# Altium schematic symbol library PBL - Connectors.SCHLIB: 91 symbols (part 2 of 2)
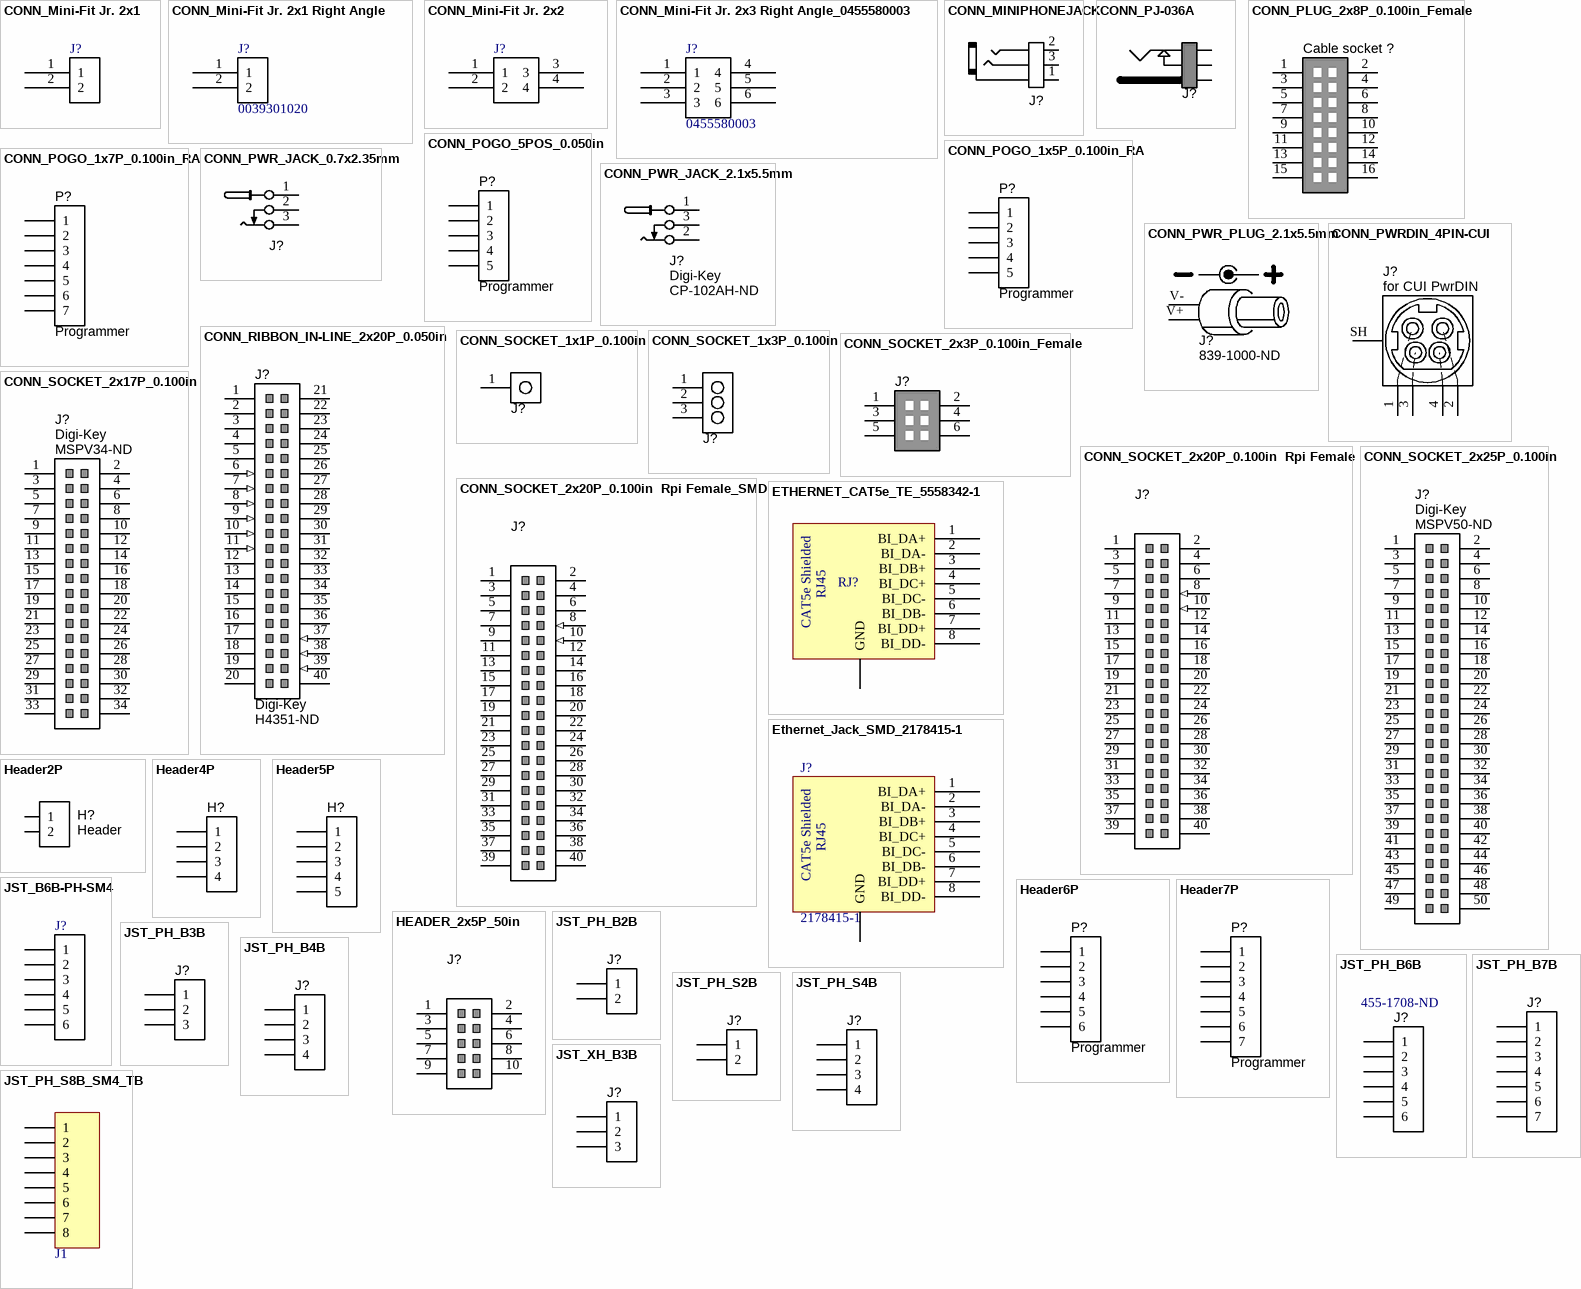
[diagram p3: symbols CONN_Mini-Fit Jr. 2x1 to JST_XH_B3B]

## JST_PH_S4B
designator J?  (value not drawn)
4 Positions Header, Shrouded Connector 0.079" (2.00mm) Surface Mount, Right Angle Tin; Manufacturer Part Number: S4B-PH-SM4-TB(LF)(SN); Manufacturer: JST Sales America Inc.; Number of Positions: 4; Number of Positions Loaded: All; Supplier 1: Digi-Key; Supplier Part Number 1: 455-1751-1-ND; Packaging: Cut Tape (CT); Part Status: Active; Connector Type: Header, Shrouded; Contact Type: Male Pin; Pitch: 0.079" (2.00mm); Number of Rows: 1; Row Spacing: -; Mounting Type: Surface Mount, Right Angle; Termination: Solder; Fastening Type: Detent Lock; Contact Mating Length: 0.130" (3.30mm); Features: Solder Retention; Contact Finish: Tin; Contact Finish Thickness: -; Color: Natural; ComponentLink1URL: http://www.jst-mfg.com/product/pdf/eng/ePH.pdf; ComponentLink1Description: http://www.jst-mfg.com/product/pdf/eng/ePH.pdf; RoHS: RoHS Compliant; Category: Connectors, Interconnects; Stock 1: 28112; Pricing 1: 1=0.79, 10=0.742, 100=0.569, 500=0.4948 (USD)
footprint S4B-PH-SM4-TB (4 Positions Header, Shrouded Connector 0.079" (2.00mm) Surface Mount, Right Angle Tin)
pins: 1, 2, 3, 4

## JST_PH_S8B_SM4_TB
designator J1, comment S8B-PH  (value not drawn)
Connector Header Surface Mount, Right Angle 8 position 0.079" (2.00mm); Manufacturer: JST; Manufacturer Part Number: S8B-PH-SM4-TB(LF)(SN); No of Positions: 8; Pitch: 2 mm; Style/Orientation: Right Angle Header/Plug; Supplier 1: Digi-Key; Supplier Part Number 1: 455-1755-1-ND; Stock 1: 10598; Pricing 1: 1=0.97, 10=0.855, 100=0.7378, 500=0.6037 (USD); Type: Shrouded Header; Termination: Crimp; ComponentLink1URL: https://datasheet.ciiva.com/8052/80594-8052241.pdf; ComponentLink1Description: https://datasheet.ciiva.com/8052/80594-8052241.pdf; ComponentLink2URL: https://datasheet.ciiva.com/730/eph-730674.pdf; ComponentLink2Description: https://datasheet.ciiva.com/730/eph-730674.pdf; ComponentLink3URL: https://datasheet.ciiva.com/11749/0900766b80df0d9d-11749607.pdf; ComponentLink3Description: https://datasheet.ciiva.com/11749/0900766b80df0d9d-11749607.pdf; ComponentLink4URL: https://datasheet.ciiva.com/16484/eph-16484631.pdf; ComponentLink4Description: https://datasheet.ciiva.com/16484/eph-16484631.pdf; ComponentLink5URL: https://datasheet.ciiva.com/712/eph-712648.pdf; ComponentLink5Description: https://datasheet.ciiva.com/712/eph-712648.pdf; ComponentLink6URL: https://datasheet.ciiva.com/712/eph-712649.pdf; ComponentLink6Description: https://datasheet.ciiva.com/712/eph-712649.pdf
footprint S8B-PH-SM4-TB (Connector Header Surface Mount, Right Angle 8 position 0.079" (2.00mm))
pins: 1, 2, 3, 4, 5, 6, 7, 8

## JST_XH_B3B
designator J?  (value not drawn)
2mm Pitch; Supplier 1: Digi-Key; Supplier Part Number 1: 455-1705-ND
footprint JST_XH_B3B
pins: 1, 2, 3

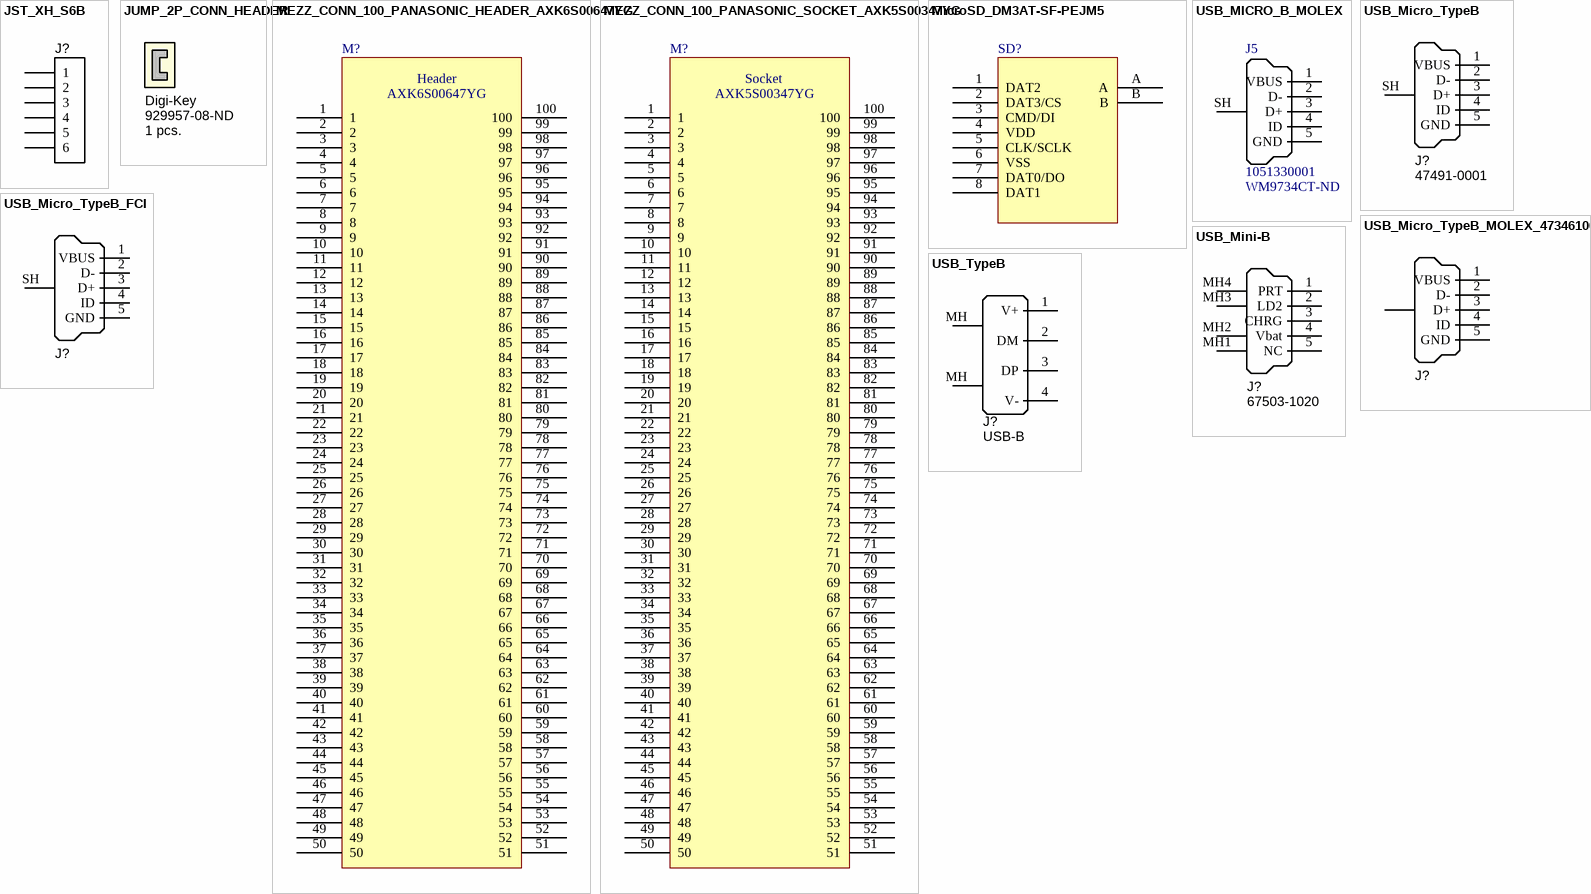
[diagram p2: symbols JST_XH_S6B to USB_TypeB]

## JST_XH_S6B
designator J?, comment S6B-XH-A-1  (value not drawn)
2.5mm Pitch; Supplier 1: Digi-Key; Supplier Part Number 1: 455-2236-ND
footprint JST_XH_6_S6B
pins: 1, 2, 3, 4, 5, 6

## JUMP_2P_CONN_HEADER
designator J?, comment 1 pcs.  Supplier 1: Digi-Key  Supplier Part Number 1: 929957-08-ND  (mechanical)
Shorting Jumper, 2-position, 2.54mm pitch; Manufacturer 1: 3M; Manufacturer Part Number 1: 929957-08; Pitch: 0.100" (2.54mm); Value: 2 position; SCDType: undef; Category: Connectors Interconnects
pins: 1 hidden, 2 hidden

## MEZZ_CONN_100_PANASONIC_HEADER_AXK6S00647YG
designator M?, comment AXK6S00647YG
PANASONIC CONN HEADER BRD/BRD .5MM 100POS; Supplier 1: Digi-Key; Supplier Part Number 1: 255-3007-1-ND
footprint CONN_Panasonic_Header_AXK6S00647YG (Panasonic P5KS 6mm,6.5mm,9mm Stack up compatible)
pins: 1, 2, 3, 4, 5, 6, 7, 8, 9, 10, 11, 12, 13, 14, 15, 16, 17, 18, 19, 20, 21, 22, 23, 24, 25, 26, 27, 28, 29, 30, 31, 32, 33, 34, 35, 36, 37, 38, 39, 40, 41, 42, 43, 44, 45, 46, 47, 48, 49, 50, 51, 52, 53, 54, 55, 56, 57, 58, 59, 60, 61, 62, 63, 64, 65, 66, 67, 68, 69, 70, 71, 72, 73, 74, 75, 76, 77, 78, 79, 80, 81, 82, 83, 84, 85, 86, 87, 88, 89, 90, 91, 92, 93, 94, 95, 96, 97, 98, 99, 100
text: Header

## MEZZ_CONN_100_PANASONIC_SOCKET_AXK5S00347YG
designator M?, comment AXK5S00347YG
PANASONIC CONN HEADER BRD/BRD .5MM 100POS; Supplier 1: Digi-Key; Supplier Part Number 1: 255-4198-1-ND
footprint CONN_Panasonic_Socket_AXK5S00347YG (Panasonic P5KS 7mm,8mm,9mm Stack up compatible)
pins: 1, 2, 3, 4, 5, 6, 7, 8, 9, 10, 11, 12, 13, 14, 15, 16, 17, 18, 19, 20, 21, 22, 23, 24, 25, 26, 27, 28, 29, 30, 31, 32, 33, 34, 35, 36, 37, 38, 39, 40, 41, 42, 43, 44, 45, 46, 47, 48, 49, 50, 51, 52, 53, 54, 55, 56, 57, 58, 59, 60, 61, 62, 63, 64, 65, 66, 67, 68, 69, 70, 71, 72, 73, 74, 75, 76, 77, 78, 79, 80, 81, 82, 83, 84, 85, 86, 87, 88, 89, 90, 91, 92, 93, 94, 95, 96, 97, 98, 99, 100
text: Socket

## MicroSD_DM3AT-SF-PEJM5
designator SD?, comment DM3AT-SF-PEJM5  (value not drawn)
Supplier 1: Digi-Key; Supplier Part Number 1: HR1964CT-ND
footprint DM3AT-SF-PEJM5
pins: 1 DAT2, 2 DAT3/CS, 3 CMD/DI, 4 VDD, 5 CLK/SCLK, 6 VSS, 7 DAT0/DO, 8 DAT1, A, B

## USB_MICRO_B_MOLEX
designator J5, comment 1051330001  Supplier Part Number 1: WM9734CT-ND
n Connector Receptacle USB micro B 5 Position Through Hole, Vertica; Supplier 1: Digi-Key
footprint USB_MICROB_MOLEX
pins: 1 VBUS, 2 D-, 3 D+, 4 ID, 5 GND, SH Shell

## USB_Micro_TypeB
designator J?, comment Manufacturer Part Number 1: 47491-0001  (hidden comment: USB Micro Type B)
Connector SMD USB Micro Type B middle mount; Manufacturer 1: Molex Inc; SCDType: undef; Package / Case: SMD; Supplier 1: Digi-Key; Supplier Part Number 1: WM17142CT-ND
footprint USB_Micro-B_Molex_SMD
pins: 1 VBUS, 2 D-, 3 D+, 4 ID, 5 GND, SH Shell

## USB_Micro_TypeB_FCI
designator J?, comment USB Micro Type B (recommended if hand soldering)  (value not drawn)
Connector SMD-THD USB Micro Type B middle mount; Manufacturer 1: FCI; Manufacturer Part Number 1: 10103593-0001LF; SCDType: undef; Package / Case: SMD/THD mid-mount; Supplier 1: Digi-Key; Supplier Part Number 1: 609-4049-1-ND
footprint USB_Micro-B_FCI_SMD
pins: 1 VBUS, 2 D-, 3 D+, 4 ID, 5 GND, SH Shell

## USB_Micro_TypeB_MOLEX_473461001
designator J?, comment 473461001  (value not drawn)
Connector SMD USB Micro Type B MOLEX; SCDType: undef; Package / Case: SMD; Supplier 1: Digi-Key; Supplier Part Number 1: WM11228CT-ND
footprint USB_MOLEX_0473461001
pins: 0 Shell, 1 VBUS, 2 D-, 3 D+, 4 ID, 5 GND

## USB_Mini-B
designator J?  Manufacturer Part Number 1: 67503-1020  (hidden comment: *)
Connector SMD USB Type Mini-B; Manufacturer 1: Molex Connector Corporation; SCDType: undef; Package / Case: SMD; Supplier 1: Digi-Key; Supplier Part Number 1: WM5461CT-ND
footprint USB_Mini-B_Molex_SMT
pins: 1 PRT, 2 LD2, 3 CHRG, 4 Vbat, 5 NC, MH1 Shell, MH2 Shell, MH3 Shell, MH4 Shell

## USB_TypeB
designator J?, comment USB-B
Connector THT Type B USB connector; Manufacturer Part Number 1: 292304-1; Manufacturer 1: TE Connectivity; Specifications: USB 2.0; SCDType: undef; Package / Case: R/A Type B; Supplier 1: Digi-Key; Connector Type: USB - B; Supplier Part Number 1: A31725-ND
footprint USB_TypeB_Tyco
pins: 1 V+, 2 DM, 3 DP, 4 V-, MH Shell, MH Shell